# Altium footprint library GoldFinger.PcbLib: 1 footprints
Each footprint in its own frame and in the unit in brackets; x right, y up, seen from the top. Pads: shape width x height; smd on the part's side, far side on the other; paste and mask are expansions set on the pad; w line width, h text height; cw(c..) or ccw(c..) is an arc to the next point about the centre after c.
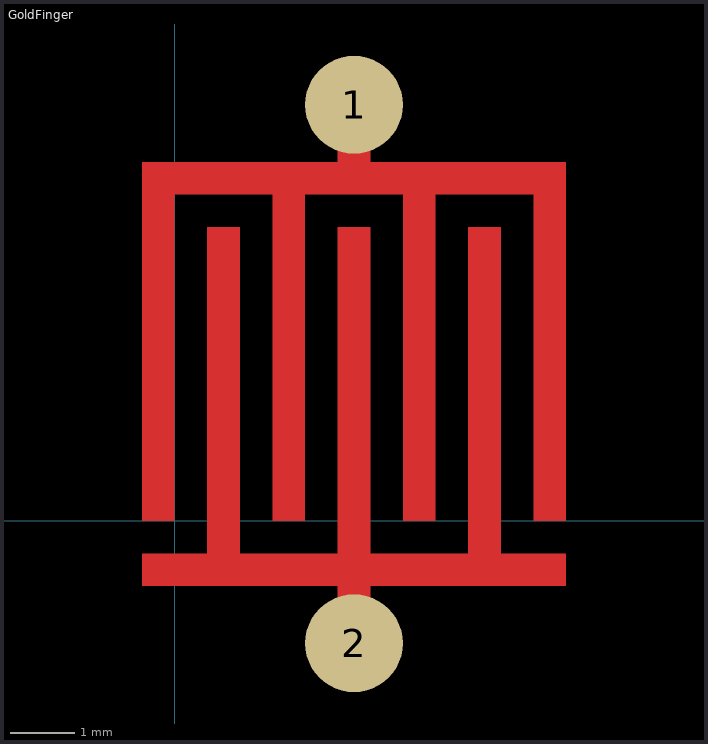
[diagram p0: the footprint, top view; thin cyan lines are the x and y axes]

## GoldFinger [mil]
pads (2):
  round 60 smd: 1(110,255) 2(110,-75)
Top Layer:
  rectangle: 220,0 240,200
  rectangle: 180,-20 200,180
  rectangle: -20,-40 240,-20
  rectangle: -20,200 240,220
  rectangle: 140,0 160,200
  rectangle: 100,-20 120,180
  rectangle: 60,0 80,200
  rectangle: 20,-20 40,180
  rectangle: -20,0 0,200
  lines w20: 110,-75 110,-30 ; 110,210 110,255
Top Paste:
  rectangle: -20,-40 240,-20
  rectangle: 180,-20 200,180
  rectangle: 100,-20 120,180
  rectangle: 20,-20 40,180
  rectangle: 220,0 240,200
  rectangle: 140,0 160,200
  rectangle: 60,0 80,200
  rectangle: 0,200 240,220
  rectangle: -20,0 0,220
Top Solder:
  rectangle: -25,-45 245,225